# Altium footprint library BCS80R005F.PcbLib: 1 footprints
Each footprint in its own frame and in the unit in brackets; x right, y up, seen from the top. Pads: shape width x height; smd on the part's side, far side on the other; paste and mask are expansions set on the pad; w line width, h text height; cw(c..) or ccw(c..) is an arc to the next point about the centre after c.
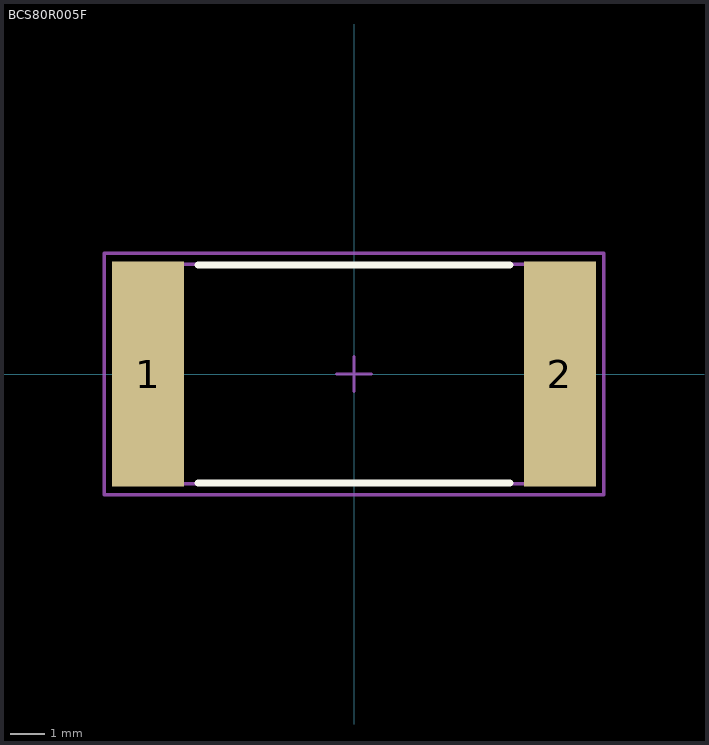
[diagram p0: the footprint, top view; thin cyan lines are the x and y axes]

## BCS80R005F [mm] "BI TECHNOLOGIES/TT ELECTRONICS - BCS80R005F - RESISTOR, 5.0 MILI OHM 1% 8W"
height 2.5
pads (2):
  rect 2.1x6.55 smd: 1(-6,0) 2(6,0)
Top Overlay:
  lines w0.2: -4.55,-3.175 4.55,-3.175 ; -4.55,3.175 4.55,3.175
Mechanical 13:
  lines w0.1: -6.65,-3.2 6.65,-3.2 6.65,3.2 -6.65,3.2 -6.65,-3.2
Mechanical 15:
  lines w0.1: -0.5,0 0.5,0 ; 0,-0.5 0,0.5 ; -7.275,-3.525 7.275,-3.525 7.275,3.525 -7.275,3.525 -7.275,-3.525
3D body: height 2.5, standoff 0, extent -6.65,-3.2 6.65,3.2